# EAGLE library part DMN2215UDM (library TPM)
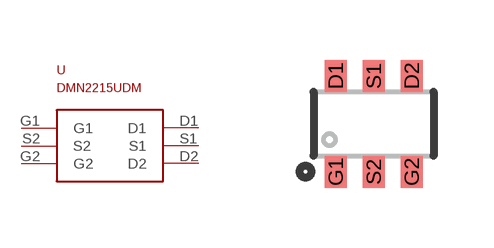
[diagram p8: symbol with the pads of SOT26; footprint SOT26]

Designator prefix -

## DMN2215UDM  [SOT26]
D1  D1
D2  D2
G1  G1
G2  G2
S1  S1
S2  S2

## Footprint SOT26 (pad centres in mm)
Footprint for SOT-26 part DMP2240UDM
smd 0.55 x 0.8: D1 -0.95,1.2; D2 0.95,1.2; G1 -0.95,-1.2; G2 0.95,-1.2; S1 0,1.2; S2 0,-1.2